# Altium footprint library 388D_Control_v1.PcbLib: 60 footprints (part 4 of 4)
Each footprint in its own frame and in the unit in brackets; x right, y up, seen from the top. Pads: shape width x height; smd on the part's side, far side on the other; paste and mask are expansions set on the pad; w line width, h text height; cw(c..) or ccw(c..) is an arc to the next point about the centre after c.
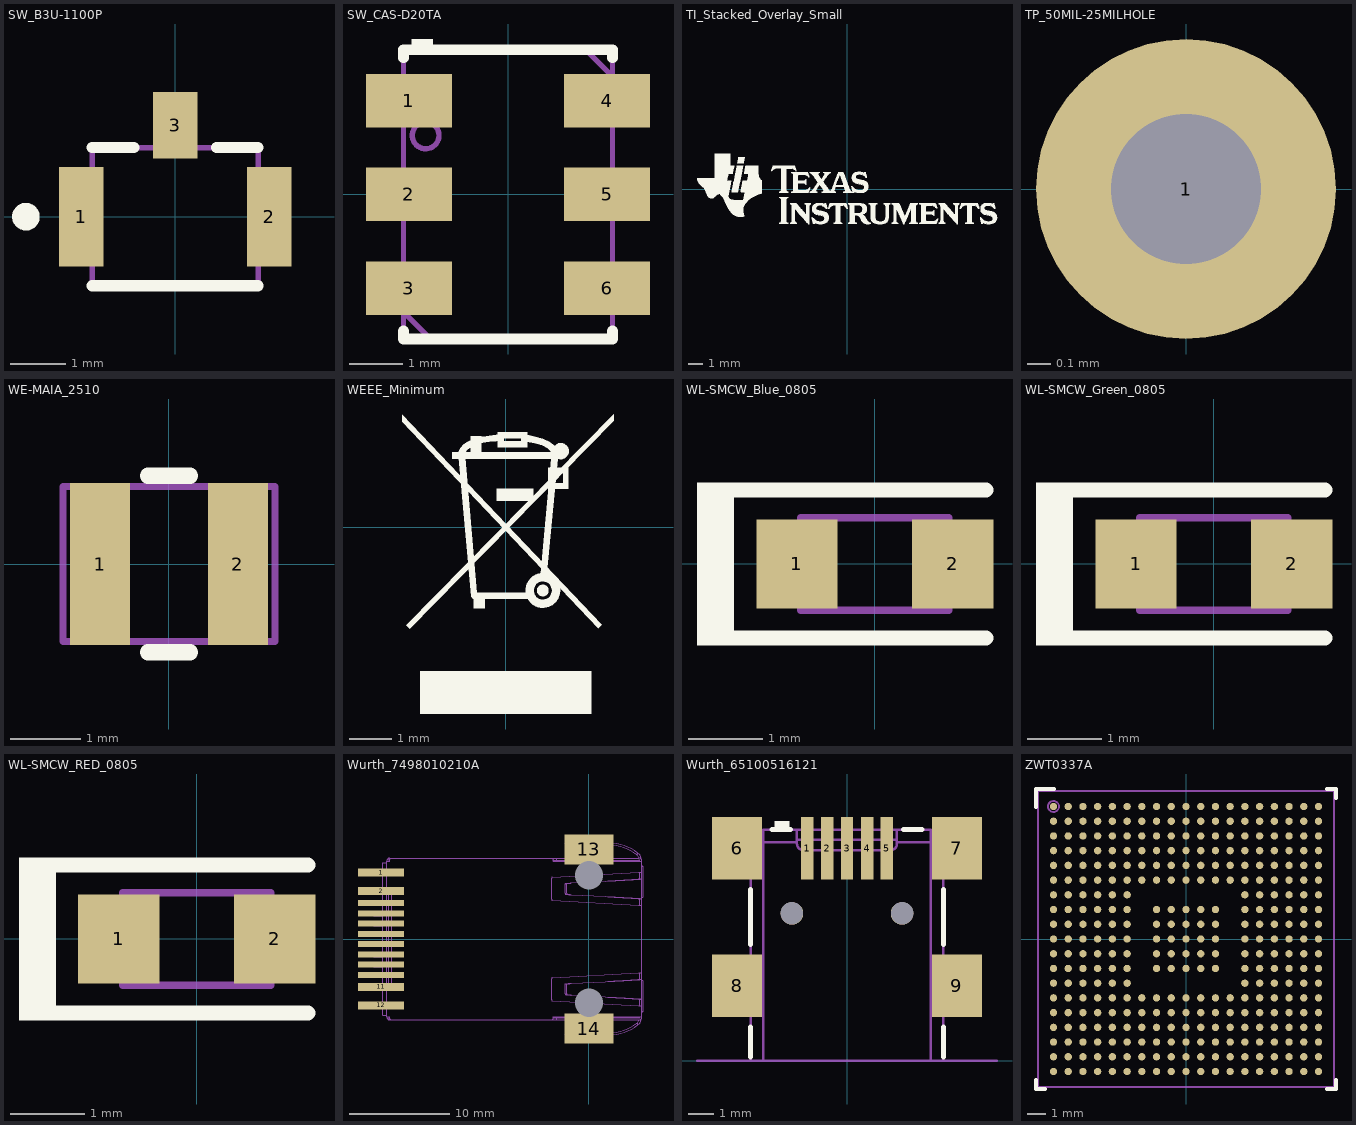
[diagram p3: the footprints below, top view; thin cyan lines are the x and y axes]

## SW_B3U-1100P [mm]
pads (3):
  rect 0.8x1.8 smd: 1(-1.7,0) 2(1.7,0)
  rect 0.8x1.2 smd: 3(0,1.65)
Top Overlay:
  circle w0.25: c-2.7,0 r0.125
  lines w0.2: -1.5,-1.25 1.5,-1.25 ; -1.5,1.25 -0.75,1.25 ; 0.75,1.25 1.5,1.25
Mechanical 5:
  lines w0.1: -1.5,-0.7 -2,-0.7 -2,0.7 -1.5,0.7 ; -0.25,1.25 -0.25,1.9 0.25,1.9 0.25,1.25 ; -0.25,1.55 0.25,1.55 ; 1.5,-0.7 2,-0.7 2,0.7 1.5,0.7 ; -1.5,-1.25 -1.5,1.25 1.5,1.25 1.5,-1.25 -1.5,-1.25
  text ".Designator" at 0.325,0.246 h0.5
3D body: height 1.6, standoff 0, extent -2,-1.25 2,1.9

## SW_CAS-D20TA [mm]
pads (6):
  rect 1.6x1 smd: 1(-1.85,1.75) 2(-1.85,0) 3(-1.85,-1.75) 4(1.85,1.75) 5(1.85,0) 6(1.85,-1.75)
Top Overlay:
  rectangle: -1.8,2.7 -1.4,2.9
  lines w0.2: -1.95,-2.55 -1.95,-2.7 -1.45,-2.7 1.95,-2.7 1.95,-2.55 ; -1.95,2.55 -1.95,2.7 1.45,2.7 1.95,2.7 1.95,2.55
Mechanical 5:
  circle w0.1: c-1.538,1.1 r0.25
  lines w0.1: -1.95,-2.05 -2.1,-2.05 -2.1,-1.45 -1.95,-1.45 ; -1.95,-0.3 -2.1,-0.3 -2.1,0.3 -1.95,0.3 ; -1.95,1.45 -2.1,1.45 -2.1,2.05 -1.95,2.05 ; 1.95,-2.05 2.1,-2.05 2.1,-1.45 1.95,-1.45 ; 1.95,-0.3 2.1,-0.3 2.1,0.3 1.95,0.3 ; 1.95,1.45 2.1,1.45 2.1,2.05 1.95,2.05 ; -1.95,-2.2 -1.45,-2.7 ; -1.95,-2.2 -1.95,-2.7 -1.45,-2.7 ; -1.95,-2.2 -1.95,2.7 1.45,2.7 ; -1.45,-2.7 1.95,-2.7 1.95,2.2 ; 1.45,2.7 1.95,2.7 1.95,2.2 ; 1.45,2.7 1.95,2.2
  text ".Designator" at -0.96,-0.477 h1
3D body: height 2.5, standoff 0, extent -2.1,-2.7 2.1,2.7

## TI_Stacked_Overlay_Small [mm]
Top Overlay:
  drawing of 18 lines, arcs and shapes, not listed

## TP_50MIL-25MILHOLE [mm]
pads (1):
  round 1.27 hole 0.635: 1(0,0)

## WE-MAIA_2510 [mm]
pads (2):
  rect 0.85x2.3 smd: 1(-0.975,0) 2(0.975,0)
Top Overlay:
  lines w0.229: -0.3,-1.25 0.3,-1.25 ; -0.3,1.25 0.3,1.25
Mechanical 5:
  lines w0.1: -1.5,-1.1 -1.5,1.1 1.5,1.1 1.5,-1.1 -1.5,-1.1
  text ".Designator" at -1.35,-0.35 h0.7
3D body: height 1, standoff 0, extent -1.349,-1.099 1.349,1.099

## WEEE_Minimum [mm]
Top Overlay:
  drawing of 23 lines, arcs and shapes, not listed

## WL-SMCW_Blue_0805 [mm]
pads (2):
  rect 1.1x1.2 smd: 1(-1.05,0) 2(1.05,0)
Top Overlay:
  rectangle: -2.4,-1.1 -2,1.1
  lines w0.2: 1.5,-1 -2,-1 -2,1 1.5,1
Mechanical 5:
  lines w0.1: -1,-0.625 1,-0.625 1,-0.2 cw(c1,0) 1,0.2 1,0.625 -1,0.625 -1,0.425 -1,0.35 -1,0.2 cw(c-1,0) -1,-0.2 -1,-0.35 -1,-0.425 -1,-0.625
  text ".Designator" at -0.7,-0.4 h0.38
3D body "WL-SMCW_0805.stp": height 0.7, standoff 0, extent -1,-0.625 1,0.625

## WL-SMCW_Green_0805 [mm]
pads (2):
  rect 1.1x1.2 smd: 1(-1.05,0) 2(1.05,0)
Top Overlay:
  rectangle: -2.4,-1.1 -2,1.1
  lines w0.2: 1.5,-1 -2,-1 -2,1 1.5,1
Mechanical 5:
  lines w0.1: -1,-0.625 -1,-0.425 -1,-0.35 -1,-0.2 ccw(c-1,0) -1,0.2 -1,0.35 -1,0.425 -1,0.625 1,0.625 1,0.2 ccw(c1,0) 1,-0.2 1,-0.625 -1,-0.625
  text ".Designator" at 0.643,-0.762 h0.38
3D body "WL-SMCW_0805.stp": height 0.7, standoff 0, extent -1,-0.625 1,0.625

## WL-SMCW_RED_0805 [mm]
pads (2):
  rect 1.1x1.2 smd: 1(-1.05,0) 2(1.05,0)
Top Overlay:
  rectangle: -2.4,-1.1 -2,1.1
  lines w0.2: 1.5,-1 -2,-1 -2,1 1.5,1
Mechanical 5:
  lines w0.1: -1,-0.625 -1,-0.425 -1,-0.35 -1,-0.2 ccw(c-1,0) -1,0.2 -1,0.35 -1,0.425 -1,0.625 1,0.625 1,0.2 ccw(c1,0) 1,-0.2 1,-0.625 -1,-0.625
  text ".Designator" at 0.406,0.178 h0.4
3D body "WL-SMCW_0805.stp": height 0.7, standoff 0, extent -1,-0.625 1,0.625

## Wurth_7498010210A [mm]
pads (16):
  rrect12% 4.6x0.81 smd: 1(-20.69,6.61) 2(-20.69,4.77) 11(-20.69,-4.77) 12(-20.69,-6.61)
  rrect16% 4.6x0.61 smd: 3(-20.69,3.57) 4(-20.69,2.55) 5(-20.69,1.53) 6(-20.69,0.51) 7(-20.69,-0.51) 8(-20.69,-1.53) 9(-20.69,-2.55) 10(-20.69,-3.57)
  rrect3% 4.9x3 smd: 13(0,8.92) 14(0,-8.92)
  round 2.5 hole 2.8 unplated mask+0.102: ALIGN1(0,6.35) ALIGN2(0,-6.35)
Mechanical 5:
  drawing of 14168 lines, arcs and shapes, not listed
  text ".Designator" at -1.8,-0.514 h1.02
3D body "7498010210A.stp": height 15.22, standoff -1.4, extent -21.42,-9.65 5.43,9.65

## Wurth_65100516121 [mm]
pads (11):
  rect 0.5x2.5 smd: 1(-1.6,8.5) 2(-0.8,8.5) 3(0,8.5) 4(0.8,8.5) 5(1.6,8.5)
  rect 2x2.5 smd: 6(-4.4,8.5) 7(4.4,8.5) 8(-4.4,3) 9(4.4,3)
  round 0.9 hole 0.9 unplated mask+0: ALIGN1(-2.2,5.9) ALIGN2(2.2,5.9)
Top Overlay:
  rectangle: -2.9,9.25 -2.3,9.6
  lines w0.2: -3.85,0.15 -3.85,1.35 ; -3.85,4.65 -3.85,6.85 ; -3,9.25 -2.25,9.25 ; 2.25,9.25 3,9.25 ; 3.85,0.15 3.85,1.35 ; 3.85,4.65 3.85,6.85
Mechanical 1:
  lines w0.1: -6,0 6,0
Mechanical 5:
  lines w0.1: -3.85,2.25 -3.95,2.25 -4.7,2.25 cw(c-4.7,2.35) -4.8,2.35 -4.8,2.553 cw(c-4.7,2.553) -4.711,2.652 ccw(c-4.75,3) -4.711,3.348 cw(c-4.7,3.447) -4.8,3.447 -4.8,3.65 cw(c-4.7,3.65) -4.7,3.75 -3.95,3.75 -3.85,3.75 ; -3.85,7.75 -3.95,7.75 -4.7,7.75 cw(c-4.7,7.85) -4.8,7.85 -4.8,8.053 cw(c-4.7,8.053) -4.711,8.152 ccw(c-4.75,8.5) -4.711,8.848 cw(c-4.7,8.947) -4.8,8.947 -4.8,9.15 cw(c-4.7,9.15) -4.7,9.25 -3.95,9.25 -3.85,9.25 ; -3.45,8.748 -3.45,8.85 ; -3.35,8.75 -3.35,8.85 -3.45,8.85 ; -2,8.85 -1.75,8.85 ; 2,8.85 1.75,8.85 ; 3.35,8.75 3.35,8.85 3.45,8.85 ; 3.45,8.748 3.45,8.85 ; 3.85,2.25 3.95,2.25 4.7,2.25 ccw(c4.7,2.35) 4.8,2.35 4.8,2.553 ccw(c4.7,2.553) 4.711,2.652 cw(c4.75,3) 4.711,3.348 ccw(c4.7,3.447) 4.8,3.447 4.8,3.65 ccw(c4.7,3.65) 4.7,3.75 3.95,3.75 3.85,3.75 ; 3.85,7.75 3.95,7.75 4.7,7.75 ccw(c4.7,7.85) 4.8,7.85 4.8,8.053 ccw(c4.7,8.053) 4.711,8.152 cw(c4.75,8.5) 4.711,8.848 ccw(c4.7,8.947) 4.8,8.947 4.8,9.15 ccw(c4.7,9.15) 4.7,9.25 3.95,9.25 3.85,9.25 ; -3.85,8.748 -3.85,9.25 ; -3.85,8.748 -3.35,8.748 -3.35,0 ; -3.85,8.748 -3.85,0 -3.35,0 ; -3.85,9.25 -3.45,9.25 -3.45,8.85 ; -3.35,0 3.35,0 ; -2,8.75 -2,9.25 ; -2,8.75 -3.348,8.75 -3.348,9.25 -2,9.25 ; -2,8.75 -2,8.682 ccw(c-1.75,8.682) -1.75,8.432 1.75,8.432 ccw(c1.75,8.682) 2,8.682 2,8.75 ; -2,9.25 -1.75,9.25 ; -1.75,8.85 -1.75,9.25 ; -1.75,8.85 1.75,8.85 ; -1.75,9.25 1.75,9.25 ; 1.75,8.85 1.75,9.25 ; 1.75,9.25 2,9.25 ; 2,8.75 2,9.25 ; 2,8.75 3.348,8.75 3.348,9.25 2,9.25 ; 3.35,0 3.35,8.748 3.85,8.748 ; 3.35,0 3.85,0 3.85,8.748 ; 3.45,8.85 3.45,9.25 3.85,9.25 ; 3.85,8.748 3.85,9.25
  text ".Designator" at 0.754,2.088 h1.02
3D body "65100516121.stp": height 3.91, standoff -0.99, extent -4.8,0 4.8,9.25

## ZWT0337A [mm]
pads (337):
  round 0.4 smd: A1(-7.2,7.2) A2(-6.4,7.2) A3(-5.6,7.2) A4(-4.8,7.2) A5(-4,7.2) A6(-3.2,7.2) A7(-2.4,7.2) A8(-1.6,7.2) A9(-0.8,7.2) A10(0,7.2) A11(0.8,7.2) A12(1.6,7.2) A13(2.4,7.2) A14(3.2,7.2) A15(4,7.2) A16(4.8,7.2) A17(5.6,7.2) A18(6.4,7.2) A19(7.2,7.2) B1(-7.2,6.4) B2(-6.4,6.4) B3(-5.6,6.4) B4(-4.8,6.4) B5(-4,6.4) B6(-3.2,6.4) B7(-2.4,6.4) B8(-1.6,6.4) B9(-0.8,6.4) B10(0,6.4) B11(0.8,6.4) B12(1.6,6.4) B13(2.4,6.4) B14(3.2,6.4) B15(4,6.4) B16(4.8,6.4) B17(5.6,6.4) B18(6.4,6.4) B19(7.2,6.4) C1(-7.2,5.6) C2(-6.4,5.6) C3(-5.6,5.6) C4(-4.8,5.6) C5(-4,5.6) C6(-3.2,5.6) C7(-2.4,5.6) C8(-1.6,5.6) C9(-0.8,5.6) C10(0,5.6) C11(0.8,5.6) C12(1.6,5.6) C13(2.4,5.6) C14(3.2,5.6) C15(4,5.6) C16(4.8,5.6) C17(5.6,5.6) C18(6.4,5.6) C19(7.2,5.6) D1(-7.2,4.8) D2(-6.4,4.8) D3(-5.6,4.8) D4(-4.8,4.8) D5(-4,4.8) D6(-3.2,4.8) D7(-2.4,4.8) D8(-1.6,4.8) D9(-0.8,4.8) D10(0,4.8) D11(0.8,4.8) D12(1.6,4.8) D13(2.4,4.8) D14(3.2,4.8) D15(4,4.8) D16(4.8,4.8) D17(5.6,4.8) D18(6.4,4.8) D19(7.2,4.8) E1(-7.2,4) E2(-6.4,4) E3(-5.6,4) E4(-4.8,4) E5(-4,4) E6(-3.2,4) E7(-2.4,4) E8(-1.6,4) E9(-0.8,4) E10(0,4) E11(0.8,4) E12(1.6,4) E13(2.4,4) E14(3.2,4) E15(4,4) E16(4.8,4) E17(5.6,4) E18(6.4,4) E19(7.2,4) F1(-7.2,3.2) F2(-6.4,3.2) F3(-5.6,3.2) F4(-4.8,3.2) F5(-4,3.2) F6(-3.2,3.2) F7(-2.4,3.2) F8(-1.6,3.2) F9(-0.8,3.2) F10(0,3.2) F11(0.8,3.2) F12(1.6,3.2) F13(2.4,3.2) F14(3.2,3.2) F15(4,3.2) F16(4.8,3.2) F17(5.6,3.2) F18(6.4,3.2) F19(7.2,3.2) G1(-7.2,2.4) G2(-6.4,2.4) G3(-5.6,2.4) G4(-4.8,2.4) G5(-4,2.4) G6(-3.2,2.4) G14(3.2,2.4) G15(4,2.4) G16(4.8,2.4) G17(5.6,2.4) G18(6.4,2.4) G19(7.2,2.4) H1(-7.2,1.6) H2(-6.4,1.6) H3(-5.6,1.6) H4(-4.8,1.6) H5(-4,1.6) H6(-3.2,1.6) H8(-1.6,1.6) H9(-0.8,1.6) H10(0,1.6) H11(0.8,1.6) H12(1.6,1.6) H14(3.2,1.6) H15(4,1.6) H16(4.8,1.6) H17(5.6,1.6) H18(6.4,1.6) H19(7.2,1.6) J1(-7.2,0.8) J2(-6.4,0.8) J3(-5.6,0.8) J4(-4.8,0.8) J5(-4,0.8) J6(-3.2,0.8) J8(-1.6,0.8) J9(-0.8,0.8) J10(0,0.8) J11(0.8,0.8) J12(1.6,0.8) J14(3.2,0.8) J15(4,0.8) J16(4.8,0.8) J17(5.6,0.8) J18(6.4,0.8) J19(7.2,0.8) K1(-7.2,0) K2(-6.4,0) K3(-5.6,0) K4(-4.8,0) K5(-4,0) K6(-3.2,0) K8(-1.6,0) K9(-0.8,0) K10(0,0) K11(0.8,0) K12(1.6,0) K14(3.2,0) K15(4,0) K16(4.8,0) K17(5.6,0) K18(6.4,0) K19(7.2,0) L1(-7.2,-0.8) L2(-6.4,-0.8) L3(-5.6,-0.8) L4(-4.8,-0.8) L5(-4,-0.8) L6(-3.2,-0.8) L8(-1.6,-0.8) L9(-0.8,-0.8) L10(0,-0.8) L11(0.8,-0.8) L12(1.6,-0.8) L14(3.2,-0.8) L15(4,-0.8) L16(4.8,-0.8) L17(5.6,-0.8) L18(6.4,-0.8) L19(7.2,-0.8) M1(-7.2,-1.6) M2(-6.4,-1.6) M3(-5.6,-1.6) M4(-4.8,-1.6) M5(-4,-1.6) M6(-3.2,-1.6) M8(-1.6,-1.6) M9(-0.8,-1.6) M10(0,-1.6) M11(0.8,-1.6) M12(1.6,-1.6) M14(3.2,-1.6) M15(4,-1.6) M16(4.8,-1.6) M17(5.6,-1.6) M18(6.4,-1.6) M19(7.2,-1.6) N1(-7.2,-2.4) N2(-6.4,-2.4) N3(-5.6,-2.4) N4(-4.8,-2.4) N5(-4,-2.4) N6(-3.2,-2.4) N14(3.2,-2.4) N15(4,-2.4) N16(4.8,-2.4) N17(5.6,-2.4) N18(6.4,-2.4) N19(7.2,-2.4) P1(-7.2,-3.2) P2(-6.4,-3.2) P3(-5.6,-3.2) P4(-4.8,-3.2) P5(-4,-3.2) P6(-3.2,-3.2) P7(-2.4,-3.2) P8(-1.6,-3.2) P9(-0.8,-3.2) P10(0,-3.2) P11(0.8,-3.2) P12(1.6,-3.2) P13(2.4,-3.2) P14(3.2,-3.2) P15(4,-3.2) P16(4.8,-3.2) P17(5.6,-3.2) P18(6.4,-3.2) P19(7.2,-3.2) R1(-7.2,-4) R2(-6.4,-4) R3(-5.6,-4) R4(-4.8,-4) R5(-4,-4) R6(-3.2,-4) R7(-2.4,-4) R8(-1.6,-4) R9(-0.8,-4) R10(0,-4) R11(0.8,-4) R12(1.6,-4) R13(2.4,-4) R14(3.2,-4) R15(4,-4) R16(4.8,-4) R17(5.6,-4) R18(6.4,-4) R19(7.2,-4) T1(-7.2,-4.8) T2(-6.4,-4.8) T3(-5.6,-4.8) T4(-4.8,-4.8) T5(-4,-4.8) T6(-3.2,-4.8) T7(-2.4,-4.8) T8(-1.6,-4.8) T9(-0.8,-4.8) T10(0,-4.8) T11(0.8,-4.8) T12(1.6,-4.8) T13(2.4,-4.8) T14(3.2,-4.8) T15(4,-4.8) T16(4.8,-4.8) T17(5.6,-4.8) T18(6.4,-4.8) T19(7.2,-4.8) U1(-7.2,-5.6) U2(-6.4,-5.6) U3(-5.6,-5.6) U4(-4.8,-5.6) U5(-4,-5.6) U6(-3.2,-5.6) U7(-2.4,-5.6) U8(-1.6,-5.6) U9(-0.8,-5.6) U10(0,-5.6) U11(0.8,-5.6) U12(1.6,-5.6) U13(2.4,-5.6) U14(3.2,-5.6) U15(4,-5.6) U16(4.8,-5.6) U17(5.6,-5.6) U18(6.4,-5.6) U19(7.2,-5.6) V1(-7.2,-6.4) V2(-6.4,-6.4) V3(-5.6,-6.4) V4(-4.8,-6.4) V5(-4,-6.4) V6(-3.2,-6.4) V7(-2.4,-6.4) V8(-1.6,-6.4) V9(-0.8,-6.4) V10(0,-6.4) V11(0.8,-6.4) V12(1.6,-6.4) V13(2.4,-6.4) V14(3.2,-6.4) V15(4,-6.4) V16(4.8,-6.4) V17(5.6,-6.4) V18(6.4,-6.4) V19(7.2,-6.4) W1(-7.2,-7.2) W2(-6.4,-7.2) W3(-5.6,-7.2) W4(-4.8,-7.2) W5(-4,-7.2) W6(-3.2,-7.2) W7(-2.4,-7.2) W8(-1.6,-7.2) W9(-0.8,-7.2) W10(0,-7.2) W11(0.8,-7.2) W12(1.6,-7.2) W13(2.4,-7.2) W14(3.2,-7.2) W15(4,-7.2) W16(4.8,-7.2) W17(5.6,-7.2) W18(6.4,-7.2) W19(7.2,-7.2)
Top Overlay:
  lines w0.2: -8.15,-7.65 -8.15,-8.15 -7.65,-8.15 ; -8.15,7.15 -8.15,8.15 -7.15,8.15 ; 7.65,-8.15 8.15,-8.15 8.15,-7.65 ; 7.65,8.15 8.15,8.15 8.15,7.65
Mechanical 5:
  circle w0.1: c-7.2,7.2 r0.3
  lines w0.1: -8.05,-8.05 -8.05,8.05 8.05,8.05 8.05,-8.05 -8.05,-8.05
  text ".Designator" at -2,-0.7 h1.85
3D body "ZWT0337A.stp": height 1.34, standoff 0, extent -8,-8 8,8